# EAGLE library part 74ACT00PW (library EW_IC_74_Logic)
digital n-input nand gate. Category: Gates Manufacturer: Generic
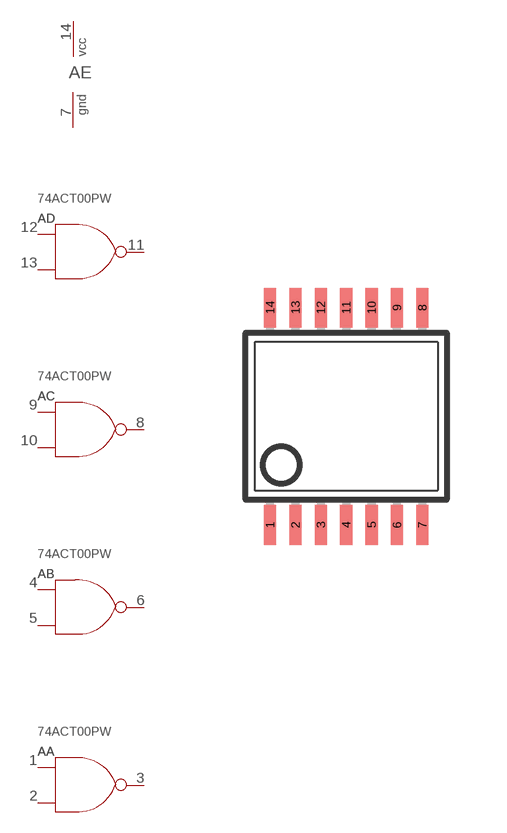
[diagram p277: symbol with the pads of TSSOP14; footprint TSSOP14]

Designator prefix A; gates A=NAND_2 B=NAND_2 C=NAND_2 D=NAND_2 E=PWRN

## 74ACT00PW  [TSSOP14]
1  A:A  pwr
2  A:B  pwr
3  A:Y  pwr
4  B:A  pwr
5  B:B  pwr
6  B:Y  pwr
7  E:GND  pwr
8  C:Y  pwr
9  C:A  pwr
10  C:B  pwr
11  D:Y  pwr
12  D:A  pwr
13  D:B  pwr
14  E:VCC  pwr

## Footprint TSSOP14 (pad centres in mm)
Thin Shrink Small Outline Plastic 14
smd 0.305 x 0.991: 1 -1.905,-2.718; 2 -1.27,-2.718; 3 -0.635,-2.718; 4 0,-2.718; 5 0.635,-2.718; 6 1.27,-2.718; 7 1.905,-2.718; 8 1.905,2.718; 9 1.27,2.718; 10 0.635,2.718; 11 0,2.718; 12 -0.635,2.718; 13 -1.27,2.718; 14 -1.905,2.718